# Altium footprint library IPC-SM-782 Section 8.11 TO252.PcbLib: 3 footprints
Each footprint in its own frame and in the unit in brackets; x right, y up, seen from the top. Pads: shape width x height; smd on the part's side, far side on the other; paste and mask are expansions set on the pad; w line width, h text height; cw(c..) or ccw(c..) is an arc to the next point about the centre after c.
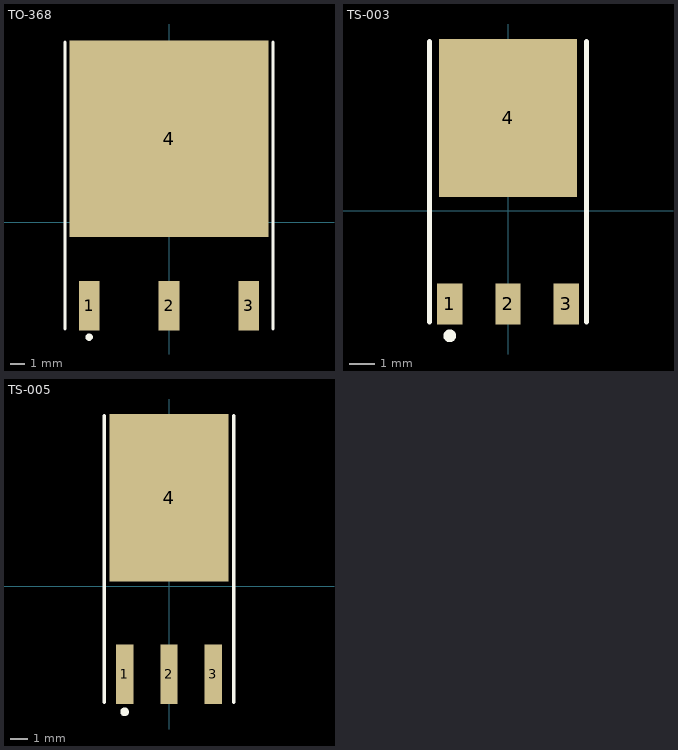
[diagram p0: the footprints below, top view; thin cyan lines are the x and y axes]

## TO-368 [mm] "D3-PAK/TO-268-AA; 3 Leads (1 Cropped); Body 19.1 (inc. leads) x 16.1 mm (LxW max)"
height 5.1
pads (4):
  rect 1.4x3.4 smd: 1(-5.45,-5.7) 2(0,-5.7) 3(5.45,-5.7)
  rect 13.6x13.4 smd: 4(0,5.7)
Top Overlay:
  circle w0.25: c-5.45,-7.85 r0.125
  lines w0.2: -7.1,-7.3 -7.1,12.3 ; 7.1,-7.3 7.1,12.3

## TS-003 [mm] "D-PAK/TO-252-AA; 3 Leads (1 Cropped); Body 10.4 (inc. leads) x 6.7 mm (LxW max)"
height 2.38
pads (4):
  rect 1x1.6 smd: 1(-2.285,-3.65) 2(0,-3.65) 3(2.285,-3.65)
  rect 5.4x6.2 smd: 4(0,3.65)
Top Overlay:
  circle w0.25: c-2.285,-4.9 r0.125
  lines w0.2: -3.085,-4.35 -3.085,6.65 ; 3.085,-4.35 3.085,6.65

## TS-005 [mm] "D2-PAK/TO-263-AB; 3 Leads (1 Cropped); Body 15.9 (inc. leads) x 10.3 mm (LxW max)"
height 4.83
pads (4):
  rect 1x3.4 smd: 1(-2.54,-5.05) 2(0,-5.05) 3(2.54,-5.05)
  rect 6.8x9.6 smd: 4(0,5.05)
Top Overlay:
  circle w0.25: c-2.54,-7.2 r0.125
  lines w0.2: -3.7,-6.65 -3.7,9.75 ; 3.7,-6.65 3.7,9.75